# Altium schematic symbol library 10090926-P264XLF.SchLib: 1 symbol
Pins are listed as number, name and electrical type; pins without a type are passive.

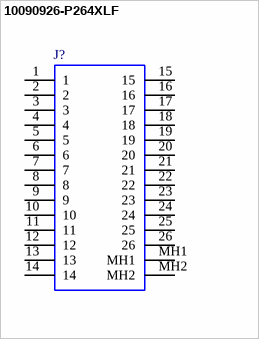
[diagram p0: symbol 10090926-P264XLF]

## 10090926-P264XLF
designator J?
26 Position D-Sub, High Density Plug, Male Pins Connector; Manufacturer_Name: Amphenol; Geometry.Height: 12.8mm; Mouser Part Number: 649-10090926-P264XLF; Mouser Price/Stock: https://www.mouser.co.uk/ProductDetail/Amphenol-FCI/10090926-P264XLF?qs=EnLMdcWnKABFbd55HgNl%252Bg%3D%3D; Manufacturer_Part_Number: 10090926-P264XLF; Datasheet Link: https://cdn.amphenol-cs.com/media/wysiwyg/files/drawing/10090926.pdf
footprint 10090926P264XLF
pins: 1, 2, 3, 4, 5, 6, 7, 8, 9, 10, 11, 12, 13, 14, 15, 16, 17, 18, 19, 20, 21, 22, 23, 24, 25, 26, MH1, MH2